# EAGLE library part SN74LVC2T45 (library acs)
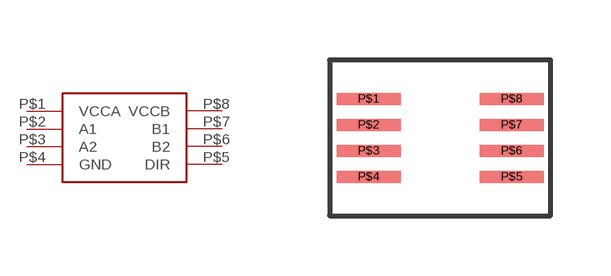
[diagram p1: symbol with the pads of TI-DCT; footprint TI-DCT]

Designator prefix -

## SN74LVC2T45  [TI-DCT]
P$1  VCCA
P$2  A1
P$3  A2
P$4  GND
P$5  DIR
P$6  B2
P$7  B1
P$8  VCCB

## Footprint TI-DCT (pad centres in mm)
smd 1.6 x 0.3: P$1 0,0; P$2 0,-0.65; P$3 0,-1.3; P$4 0,-1.95; P$5 3.575,-1.95; P$6 3.575,-1.3; P$7 3.575,-0.65; P$8 3.575,0